# Altium schematic symbol library MOD-MP1584EN.SchLib: 1 symbol
Pins are listed as number, name and electrical type; pins without a type are passive.

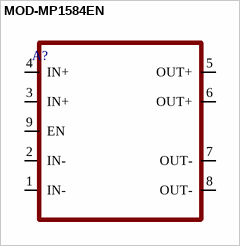
[diagram p0: symbol MOD-MP1584EN]

## MOD-MP1584EN
designator A?
pins: 1 IN-, 2 IN-, 3 IN+, 4 IN+, 5 OUT+, 6 OUT+, 7 OUT-, 8 OUT-, 9 EN